# EAGLE library part XE216-512-TQ128 (library xmos)
XCORE PROCESSOR 512KB RAM, 32-Bit 16-Core, 2000MIPS
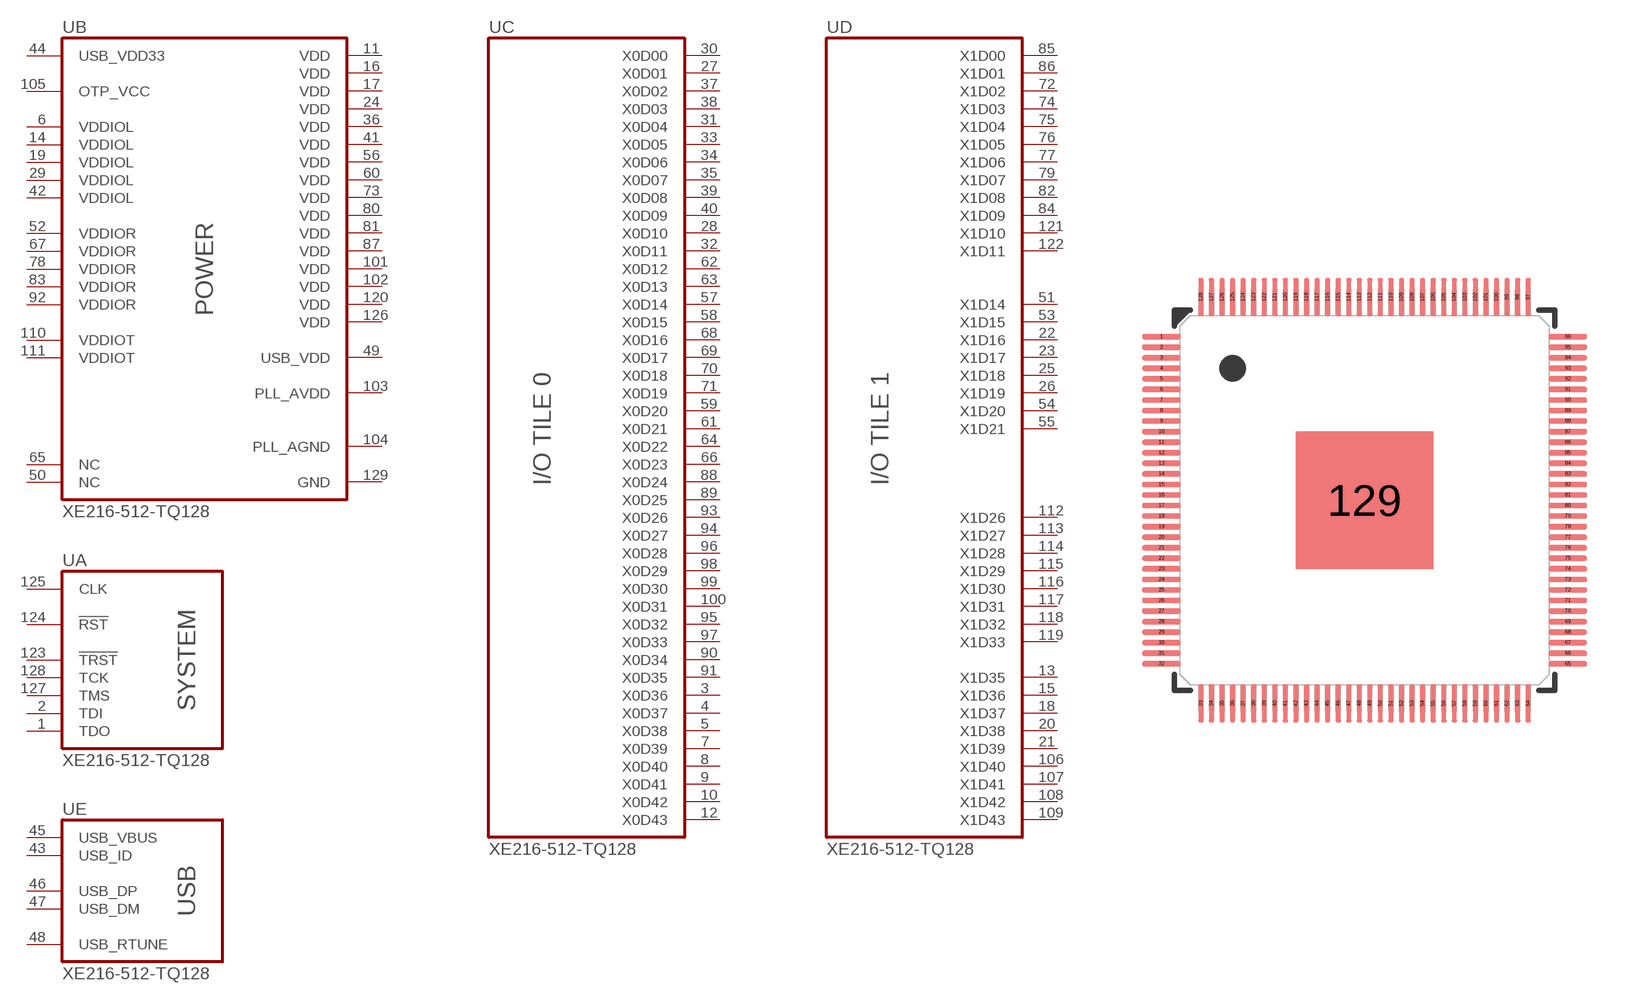
[diagram p4: symbol with the pads of TQFP128; footprint TQFP128]

Designator prefix U; gates B=XE216-512-TQ128-POWER A=XE216-512-TQ128-SYS E=XE216-512-TQ128-USB C=XE216-512-TQ128-IOTILE0 D=XE216-512-TQ128-IOTILE1

## XE216-512-TQ128  [TQFP128]
1  A:TDO  out
2  A:TDI  in
3  C:X0D36
4  C:X0D37
5  C:X0D38
6  B:VDDIOL  pwr
7  C:X0D39
8  C:X0D40
9  C:X0D41
10  C:X0D42
11  B:VDD  pwr
12  C:X0D43
13  D:X1D35
14  B:VDDIOL  pwr
15  D:X1D36
16  B:VDD  pwr
17  B:VDD  pwr
18  D:X1D37
19  B:VDDIOL  pwr
20  D:X1D38
21  D:X1D39
22  D:X1D16
23  D:X1D17
24  B:VDD  pwr
25  D:X1D18
26  D:X1D19
27  C:X0D01
28  C:X0D10
29  B:VDDIOL  pwr
30  C:X0D00
31  C:X0D04
32  C:X0D11
33  C:X0D05
34  C:X0D06
35  C:X0D07
36  B:VDD  pwr
37  C:X0D02
38  C:X0D03
39  C:X0D08
40  C:X0D09
41  B:VDD  pwr
42  B:VDDIOL  pwr
43  E:USB_ID  in
44  B:USB_VDD33  pwr
45  E:USB_VBUS  in
46  E:USB_DP
47  E:USB_DM
48  E:USB_RTUNE  out
49  B:USB_VDD  pwr
50  B:NC  nc
51  D:X1D14
52  B:VDDIOR  pwr
53  D:X1D15
54  D:X1D20
55  D:X1D21
56  B:VDD  pwr
57  C:X0D14
58  C:X0D15
59  C:X0D20
60  B:VDD  pwr
61  C:X0D21
62  C:X0D12
63  C:X0D13
64  C:X0D22
65  B:NC  nc
66  C:X0D23
67  B:VDDIOR  pwr
68  C:X0D16
69  C:X0D17
70  C:X0D18
71  C:X0D19
72  D:X1D02
73  B:VDD  pwr
74  D:X1D03
75  D:X1D04
76  D:X1D05
77  D:X1D06
78  B:VDDIOR  pwr
79  D:X1D07
80  B:VDD  pwr
81  B:VDD  pwr
82  D:X1D08
83  B:VDDIOR  pwr
84  D:X1D09
85  D:X1D00
86  D:X1D01
87  B:VDD  pwr
88  C:X0D24
89  C:X0D25
90  C:X0D34
91  C:X0D35
92  B:VDDIOR  pwr
93  C:X0D26
94  C:X0D27
95  C:X0D32
96  C:X0D28
97  C:X0D33
98  C:X0D29
99  C:X0D30
100  C:X0D31
101  B:VDD  pwr
102  B:VDD  pwr
103  B:PLL_AVDD  pwr
104  B:PLL_AGND  pwr
105  B:OTP_VCC  pwr
106  D:X1D40
107  D:X1D41
108  D:X1D42
109  D:X1D43
110  B:VDDIOT  pwr
111  B:VDDIOT  pwr
112  D:X1D26
113  D:X1D27
114  D:X1D28
115  D:X1D29
116  D:X1D30
117  D:X1D31
118  D:X1D32
119  D:X1D33
120  B:VDD  pwr
121  D:X1D10
122  D:X1D11
123  A:!TRST!  in
124  A:!RST!  in
125  A:CLK  in
126  B:VDD  pwr
127  A:TMS  in
128  A:TCK  in
129  B:GND  pwr

## Footprint TQFP128 (pad centres in mm)
TQFP-128 body 14 x 14 mm, 0.4 mm pitch
smd 1.45 x 0.2: 1 -7.7,6.2; 2 -7.7,5.8; 3 -7.7,5.4; 4 -7.7,5; 5 -7.7,4.6; 6 -7.7,4.2; 7 -7.7,3.8; 8 -7.7,3.4; 9 -7.7,3; 10 -7.7,2.6; 11 -7.7,2.2; 12 -7.7,1.8; 13 -7.7,1.4; 14 -7.7,1; 15 -7.7,0.6; 16 -7.7,0.2; 17 -7.7,-0.2; 18 -7.7,-0.6; 19 -7.7,-1; 20 -7.7,-1.4; 21 -7.7,-1.8; 22 -7.7,-2.2; 23 -7.7,-2.6; 24 -7.7,-3; 25 -7.7,-3.4; 26 -7.7,-3.8; 27 -7.7,-4.2; 28 -7.7,-4.6; 29 -7.7,-5; 30 -7.7,-5.4; 31 -7.7,-5.8; 32 -7.7,-6.2; 65 7.7,-6.2; 66 7.7,-5.8; 67 7.7,-5.4; 68 7.7,-5; 69 7.7,-4.6; 70 7.7,-4.2; 71 7.7,-3.8; 72 7.7,-3.4; 73 7.7,-3; 74 7.7,-2.6; 75 7.7,-2.2; 76 7.7,-1.8; 77 7.7,-1.4; 78 7.7,-1; 79 7.7,-0.6; 80 7.7,-0.2; 81 7.7,0.2; 82 7.7,0.6; 83 7.7,1; 84 7.7,1.4; 85 7.7,1.8; 86 7.7,2.2; 87 7.7,2.6; 88 7.7,3; 89 7.7,3.4; 90 7.7,3.8; 91 7.7,4.2; 92 7.7,4.6; 93 7.7,5; 94 7.7,5.4; 95 7.7,5.8; 96 7.7,6.2
smd 0.2 x 1.45: 33 -6.2,-7.7; 34 -5.8,-7.7; 35 -5.4,-7.7; 36 -5,-7.7; 37 -4.6,-7.7; 38 -4.2,-7.7; 39 -3.8,-7.7; 40 -3.4,-7.7; 41 -3,-7.7; 42 -2.6,-7.7; 43 -2.2,-7.7; 44 -1.8,-7.7; 45 -1.4,-7.7; 46 -1,-7.7; 47 -0.6,-7.7; 48 -0.2,-7.7; 49 0.2,-7.7; 50 0.6,-7.7; 51 1,-7.7; 52 1.4,-7.7; 53 1.8,-7.7; 54 2.2,-7.7; 55 2.6,-7.7; 56 3,-7.7; 57 3.4,-7.7; 58 3.8,-7.7; 59 4.2,-7.7; 60 4.6,-7.7; 61 5,-7.7; 62 5.4,-7.7; 63 5.8,-7.7; 64 6.2,-7.7; 97 6.2,7.7; 98 5.8,7.7; 99 5.4,7.7; 100 5,7.7; 101 4.6,7.7; 102 4.2,7.7; 103 3.8,7.7; 104 3.4,7.7; 105 3,7.7; 106 2.6,7.7; 107 2.2,7.7; 108 1.8,7.7; 109 1.4,7.7; 110 1,7.7; 111 0.6,7.7; 112 0.2,7.7; 113 -0.2,7.7; 114 -0.6,7.7; 115 -1,7.7; 116 -1.4,7.7; 117 -1.8,7.7; 118 -2.2,7.7; 119 -2.6,7.7; 120 -3,7.7; 121 -3.4,7.7; 122 -3.8,7.7; 123 -4.2,7.7; 124 -4.6,7.7; 125 -5,7.7; 126 -5.4,7.7; 127 -5.8,7.7; 128 -6.2,7.7
smd 5.2 x 5.2: 129 0,0